# Altium integrated library NSC Simple PLD.IntLib: 508 symbols (part 4 of 10)
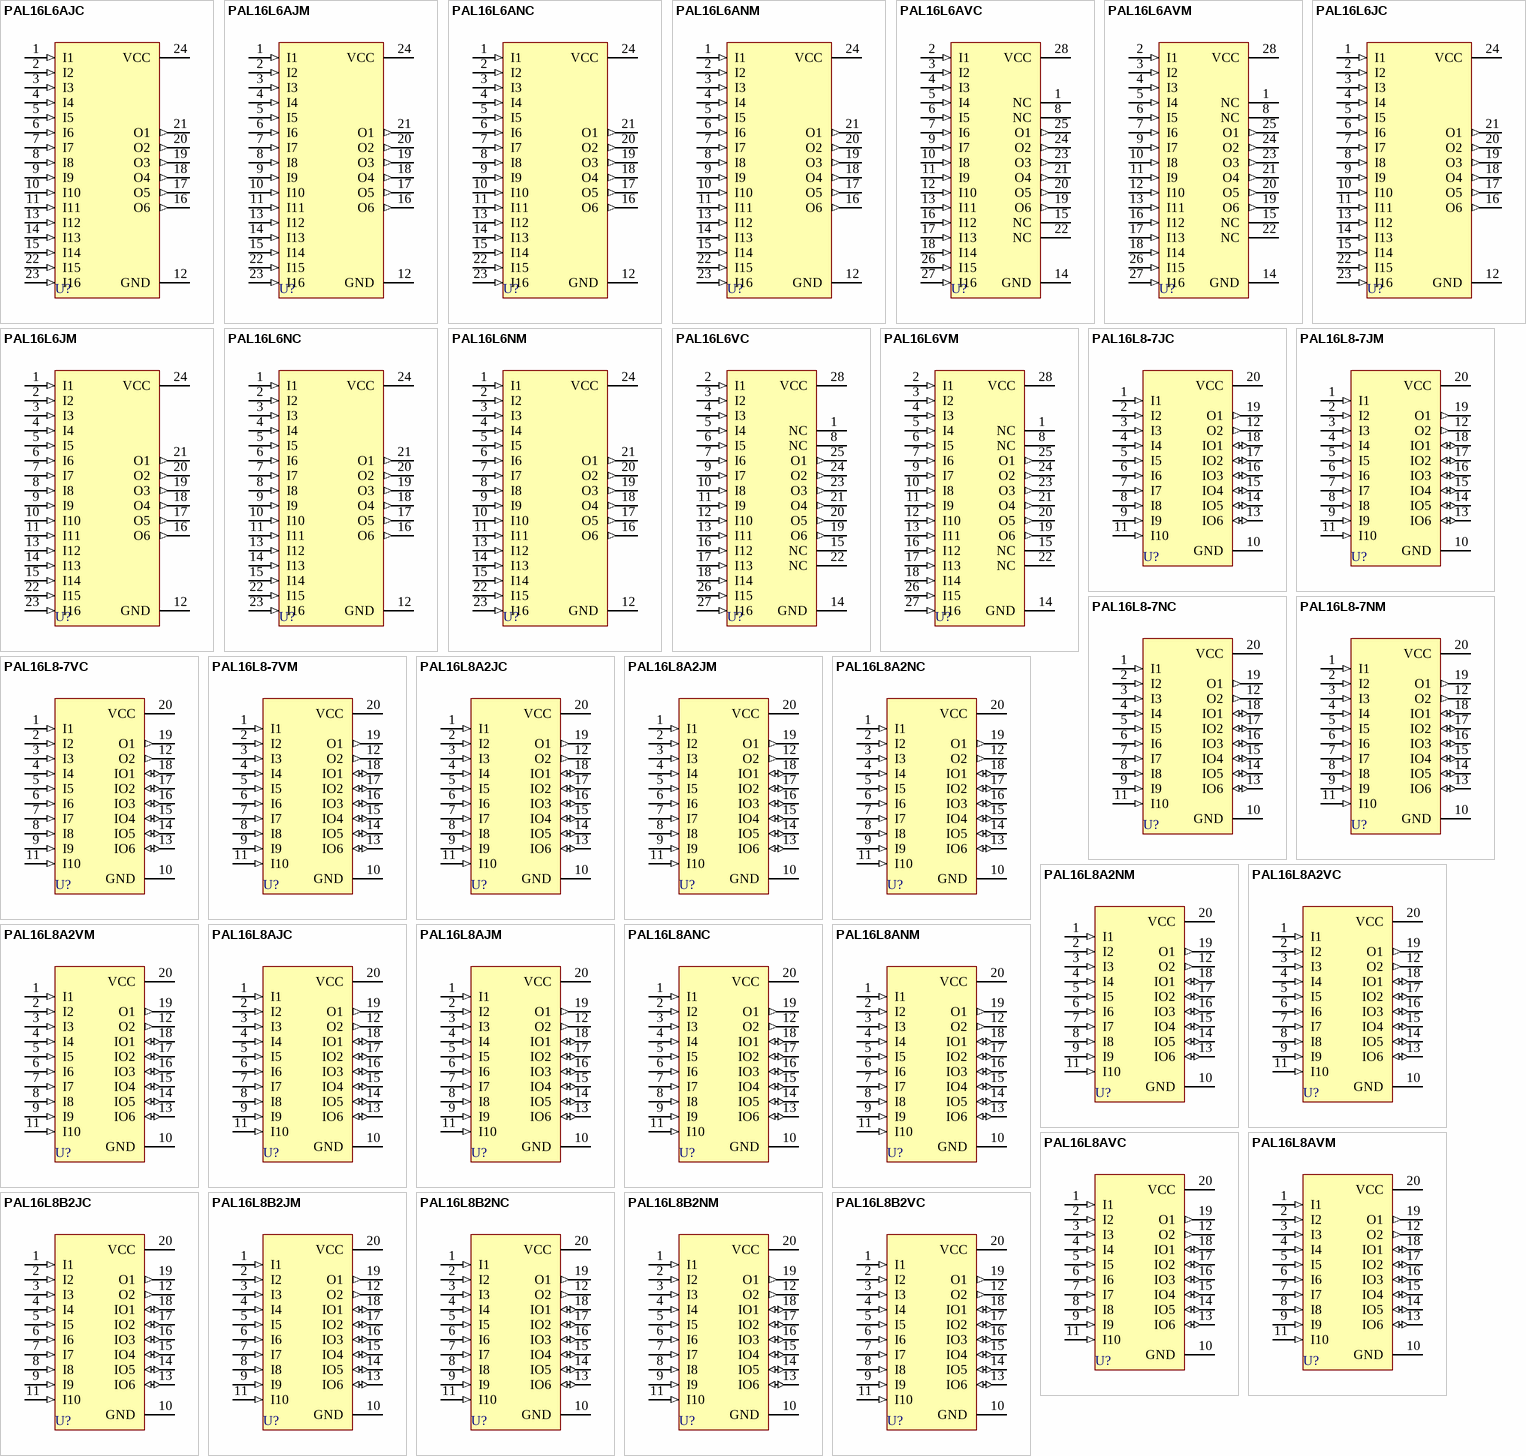
[diagram p17: symbols PAL16L6AJC to PAL16L8B2VC]

## PAL16L6AJM
designator U?
24-Pin Small PAL; Published: 15-Apr-2002; LatestRevisionDate: 04-Mar-2005; LatestRevisionNote: Stylized 3D Model Added.; DatasheetVersion: 1990; PackageVersion: 2000; PackageReference: J24F; Publisher: Altium Limited; PackageDescription: DIP; 24 Leads; Row Spacing 7.62 mm; Pitch 2.54 mm; Code_JEDEC: MS-001-AF; ComponentLink1Description: Manufacturer Link; ComponentLink1URL: http://www.national.com/
footprint J24F (DIP; 24 Leads; Row Spacing 7.62 mm; Pitch 2.54 mm)
3D model J24F (DIP; 24 Leads; Row Spacing 7.62 mm; Pitch 2.54 mm)
pins: 1 I1 (in), 2 I2 (in), 3 I3 (in), 4 I4 (in), 5 I5 (in), 6 I6 (in), 7 I7 (in), 8 I8 (in), 9 I9 (in), 10 I10 (in), 11 I11 (in), 12 GND (power), 13 I12 (in), 14 I13 (in), 15 I14 (in), 16 O6 (out), 17 O5 (out), 18 O4 (out), 19 O3 (out), 20 O2 (out), 21 O1 (out), 22 I15 (in), 23 I16 (in), 24 VCC (power)

## PAL16L6ANC
designator U?
24-Pin Small PAL; Published: 15-Apr-2002; LatestRevisionDate: 04-Mar-2005; LatestRevisionNote: Stylized 3D Model Added.; DatasheetVersion: 1990; PackageVersion: 2000; PackageReference: N24C; Publisher: Altium Limited; PackageDescription: DIP; 24 Leads; Row Spacing 7.62 mm; Pitch 2.54 mm; Code_JEDEC: MS-001-AF; ComponentLink1Description: Manufacturer Link; ComponentLink1URL: http://www.national.com/
footprint N24C (DIP; 24 Leads; Row Spacing 7.62 mm; Pitch 2.54 mm)
3D model J24F (DIP; 24 Leads; Row Spacing 7.62 mm; Pitch 2.54 mm)
pins: 1 I1 (in), 2 I2 (in), 3 I3 (in), 4 I4 (in), 5 I5 (in), 6 I6 (in), 7 I7 (in), 8 I8 (in), 9 I9 (in), 10 I10 (in), 11 I11 (in), 12 GND (power), 13 I12 (in), 14 I13 (in), 15 I14 (in), 16 O6 (out), 17 O5 (out), 18 O4 (out), 19 O3 (out), 20 O2 (out), 21 O1 (out), 22 I15 (in), 23 I16 (in), 24 VCC (power)

## PAL16L6ANM
designator U?
24-Pin Small PAL; Published: 15-Apr-2002; LatestRevisionDate: 04-Mar-2005; LatestRevisionNote: Stylized 3D Model Added.; DatasheetVersion: 1990; PackageVersion: 2000; PackageReference: N24C; Publisher: Altium Limited; PackageDescription: DIP; 24 Leads; Row Spacing 7.62 mm; Pitch 2.54 mm; Code_JEDEC: MS-001-AF; ComponentLink1Description: Manufacturer Link; ComponentLink1URL: http://www.national.com/
footprint N24C (DIP; 24 Leads; Row Spacing 7.62 mm; Pitch 2.54 mm)
3D model J24F (DIP; 24 Leads; Row Spacing 7.62 mm; Pitch 2.54 mm)
pins: 1 I1 (in), 2 I2 (in), 3 I3 (in), 4 I4 (in), 5 I5 (in), 6 I6 (in), 7 I7 (in), 8 I8 (in), 9 I9 (in), 10 I10 (in), 11 I11 (in), 12 GND (power), 13 I12 (in), 14 I13 (in), 15 I14 (in), 16 O6 (out), 17 O5 (out), 18 O4 (out), 19 O3 (out), 20 O2 (out), 21 O1 (out), 22 I15 (in), 23 I16 (in), 24 VCC (power)

## PAL16L6AVC
designator U?
28-Pin Small PAL; Published: 15-Apr-2002; LatestRevisionDate: 13-Apr-2006; LatestRevisionNote: IPC-7351 Footprint Added.; DatasheetVersion: 1990; PackageVersion: 2000; PackageReference: V28A; Publisher: Altium Limited; PackageDescription: 28-Pin Leaded Chip Carrier 1.27 mm Pitch; Code_IPC: PLCC-28; ComponentLink1Description: Manufacturer Link; ComponentLink1URL: http://www.national.com/
footprint V28A_N (Leaded Chip Carrier, 28-Leads, Body 11.5x11.5mm, Pitch 1.27mm, IPC Medium Density)
footprint V28A_L (Leaded Chip Carrier, 28-Leads, Body 11.5x11.5mm, Pitch 1.27mm, IPC High Density)
footprint V28A_M (Leaded Chip Carrier, 28-Leads, Body 11.5x11.5mm, Pitch 1.27mm, IPC Low Density)
3D model PAL16L6A-V28A (28-Pin Leaded Chip Carrier 1.27 mm Pitch)
pins: 1 NC, 2 I1 (in), 3 I2 (in), 4 I3 (in), 5 I4 (in), 6 I5 (in), 7 I6 (in), 8 NC, 9 I7 (in), 10 I8 (in), 11 I9 (in), 12 I10 (in), 13 I11 (in), 14 GND (power), 15 NC, 16 I12 (in), 17 I13 (in), 18 I14 (in), 19 O6 (out), 20 O5 (out), 21 O4 (out), 22 NC, 23 O3 (out), 24 O2 (out), 25 O1 (out), 26 I15 (in), 27 I16 (in), 28 VCC (power)

## PAL16L6AVM
designator U?
28-Pin Small PAL; Published: 15-Apr-2002; LatestRevisionDate: 13-Apr-2006; LatestRevisionNote: IPC-7351 Footprint Added.; DatasheetVersion: 1990; PackageVersion: 2000; PackageReference: V28A; Publisher: Altium Limited; PackageDescription: 28-Pin Leaded Chip Carrier 1.27 mm Pitch; Code_IPC: PLCC-28; ComponentLink1Description: Manufacturer Link; ComponentLink1URL: http://www.national.com/
footprint V28A_N (Leaded Chip Carrier, 28-Leads, Body 11.5x11.5mm, Pitch 1.27mm, IPC Medium Density)
footprint V28A_L (Leaded Chip Carrier, 28-Leads, Body 11.5x11.5mm, Pitch 1.27mm, IPC High Density)
footprint V28A_M (Leaded Chip Carrier, 28-Leads, Body 11.5x11.5mm, Pitch 1.27mm, IPC Low Density)
3D model PAL16L6A-V28A (28-Pin Leaded Chip Carrier 1.27 mm Pitch)
pins: 1 NC, 2 I1 (in), 3 I2 (in), 4 I3 (in), 5 I4 (in), 6 I5 (in), 7 I6 (in), 8 NC, 9 I7 (in), 10 I8 (in), 11 I9 (in), 12 I10 (in), 13 I11 (in), 14 GND (power), 15 NC, 16 I12 (in), 17 I13 (in), 18 I14 (in), 19 O6 (out), 20 O5 (out), 21 O4 (out), 22 NC, 23 O3 (out), 24 O2 (out), 25 O1 (out), 26 I15 (in), 27 I16 (in), 28 VCC (power)

## PAL16L6JC
designator U?
24-Pin Small PAL; Published: 15-Apr-2002; LatestRevisionDate: 04-Mar-2005; LatestRevisionNote: Stylized 3D Model Added.; DatasheetVersion: 1990; PackageVersion: 2000; PackageReference: J24F; Publisher: Altium Limited; PackageDescription: DIP; 24 Leads; Row Spacing 7.62 mm; Pitch 2.54 mm; Code_JEDEC: MS-001-AF; ComponentLink1Description: Manufacturer Link; ComponentLink1URL: http://www.national.com/
footprint J24F (DIP; 24 Leads; Row Spacing 7.62 mm; Pitch 2.54 mm)
3D model J24F (DIP; 24 Leads; Row Spacing 7.62 mm; Pitch 2.54 mm)
pins: 1 I1 (in), 2 I2 (in), 3 I3 (in), 4 I4 (in), 5 I5 (in), 6 I6 (in), 7 I7 (in), 8 I8 (in), 9 I9 (in), 10 I10 (in), 11 I11 (in), 12 GND (power), 13 I12 (in), 14 I13 (in), 15 I14 (in), 16 O6 (out), 17 O5 (out), 18 O4 (out), 19 O3 (out), 20 O2 (out), 21 O1 (out), 22 I15 (in), 23 I16 (in), 24 VCC (power)

## PAL16L6JM
designator U?
24-Pin Small PAL; Published: 15-Apr-2002; LatestRevisionDate: 04-Mar-2005; LatestRevisionNote: Stylized 3D Model Added.; DatasheetVersion: 1990; PackageVersion: 2000; PackageReference: J24F; Publisher: Altium Limited; PackageDescription: DIP; 24 Leads; Row Spacing 7.62 mm; Pitch 2.54 mm; Code_JEDEC: MS-001-AF; ComponentLink1Description: Manufacturer Link; ComponentLink1URL: http://www.national.com/
footprint J24F (DIP; 24 Leads; Row Spacing 7.62 mm; Pitch 2.54 mm)
3D model J24F (DIP; 24 Leads; Row Spacing 7.62 mm; Pitch 2.54 mm)
pins: 1 I1 (in), 2 I2 (in), 3 I3 (in), 4 I4 (in), 5 I5 (in), 6 I6 (in), 7 I7 (in), 8 I8 (in), 9 I9 (in), 10 I10 (in), 11 I11 (in), 12 GND (power), 13 I12 (in), 14 I13 (in), 15 I14 (in), 16 O6 (out), 17 O5 (out), 18 O4 (out), 19 O3 (out), 20 O2 (out), 21 O1 (out), 22 I15 (in), 23 I16 (in), 24 VCC (power)

## PAL16L6NC
designator U?
24-Pin Small PAL; Published: 15-Apr-2002; LatestRevisionDate: 04-Mar-2005; LatestRevisionNote: Stylized 3D Model Added.; DatasheetVersion: 1990; PackageVersion: 2000; PackageReference: N24C; Publisher: Altium Limited; PackageDescription: DIP; 24 Leads; Row Spacing 7.62 mm; Pitch 2.54 mm; Code_JEDEC: MS-001-AF; ComponentLink1Description: Manufacturer Link; ComponentLink1URL: http://www.national.com/
footprint N24C (DIP; 24 Leads; Row Spacing 7.62 mm; Pitch 2.54 mm)
3D model J24F (DIP; 24 Leads; Row Spacing 7.62 mm; Pitch 2.54 mm)
pins: 1 I1 (in), 2 I2 (in), 3 I3 (in), 4 I4 (in), 5 I5 (in), 6 I6 (in), 7 I7 (in), 8 I8 (in), 9 I9 (in), 10 I10 (in), 11 I11 (in), 12 GND (power), 13 I12 (in), 14 I13 (in), 15 I14 (in), 16 O6 (out), 17 O5 (out), 18 O4 (out), 19 O3 (out), 20 O2 (out), 21 O1 (out), 22 I15 (in), 23 I16 (in), 24 VCC (power)

## PAL16L6NM
designator U?
24-Pin Small PAL; Published: 15-Apr-2002; LatestRevisionDate: 04-Mar-2005; LatestRevisionNote: Stylized 3D Model Added.; DatasheetVersion: 1990; PackageVersion: 2000; PackageReference: N24C; Publisher: Altium Limited; PackageDescription: DIP; 24 Leads; Row Spacing 7.62 mm; Pitch 2.54 mm; Code_JEDEC: MS-001-AF; ComponentLink1Description: Manufacturer Link; ComponentLink1URL: http://www.national.com/
footprint N24C (DIP; 24 Leads; Row Spacing 7.62 mm; Pitch 2.54 mm)
3D model J24F (DIP; 24 Leads; Row Spacing 7.62 mm; Pitch 2.54 mm)
pins: 1 I1 (in), 2 I2 (in), 3 I3 (in), 4 I4 (in), 5 I5 (in), 6 I6 (in), 7 I7 (in), 8 I8 (in), 9 I9 (in), 10 I10 (in), 11 I11 (in), 12 GND (power), 13 I12 (in), 14 I13 (in), 15 I14 (in), 16 O6 (out), 17 O5 (out), 18 O4 (out), 19 O3 (out), 20 O2 (out), 21 O1 (out), 22 I15 (in), 23 I16 (in), 24 VCC (power)

## PAL16L6VC
designator U?
28-Pin Small PAL; Published: 15-Apr-2002; LatestRevisionDate: 13-Apr-2006; LatestRevisionNote: IPC-7351 Footprint Added.; DatasheetVersion: 1990; PackageVersion: 2000; PackageReference: V28A; Publisher: Altium Limited; PackageDescription: 28-Pin Leaded Chip Carrier 1.27 mm Pitch; Code_IPC: PLCC-28; ComponentLink1Description: Manufacturer Link; ComponentLink1URL: http://www.national.com/
footprint V28A_N (Leaded Chip Carrier, 28-Leads, Body 11.5x11.5mm, Pitch 1.27mm, IPC Medium Density)
footprint V28A_L (Leaded Chip Carrier, 28-Leads, Body 11.5x11.5mm, Pitch 1.27mm, IPC High Density)
footprint V28A_M (Leaded Chip Carrier, 28-Leads, Body 11.5x11.5mm, Pitch 1.27mm, IPC Low Density)
3D model PAL16L6-V28A (28-Pin Leaded Chip Carrier 1.27 mm Pitch)
pins: 1 NC, 2 I1 (in), 3 I2 (in), 4 I3 (in), 5 I4 (in), 6 I5 (in), 7 I6 (in), 8 NC, 9 I7 (in), 10 I8 (in), 11 I9 (in), 12 I10 (in), 13 I11 (in), 14 GND (power), 15 NC, 16 I12 (in), 17 I13 (in), 18 I14 (in), 19 O6 (out), 20 O5 (out), 21 O4 (out), 22 NC, 23 O3 (out), 24 O2 (out), 25 O1 (out), 26 I15 (in), 27 I16 (in), 28 VCC (power)

## PAL16L6VM
designator U?
28-Pin Small PAL; Published: 15-Apr-2002; LatestRevisionDate: 13-Apr-2006; LatestRevisionNote: IPC-7351 Footprint Added.; DatasheetVersion: 1990; PackageVersion: 2000; PackageReference: V28A; Publisher: Altium Limited; PackageDescription: 28-Pin Leaded Chip Carrier 1.27 mm Pitch; Code_IPC: PLCC-28; ComponentLink1Description: Manufacturer Link; ComponentLink1URL: http://www.national.com/
footprint V28A_N (Leaded Chip Carrier, 28-Leads, Body 11.5x11.5mm, Pitch 1.27mm, IPC Medium Density)
footprint V28A_L (Leaded Chip Carrier, 28-Leads, Body 11.5x11.5mm, Pitch 1.27mm, IPC High Density)
footprint V28A_M (Leaded Chip Carrier, 28-Leads, Body 11.5x11.5mm, Pitch 1.27mm, IPC Low Density)
3D model PAL16L6-V28A (28-Pin Leaded Chip Carrier 1.27 mm Pitch)
pins: 1 NC, 2 I1 (in), 3 I2 (in), 4 I3 (in), 5 I4 (in), 6 I5 (in), 7 I6 (in), 8 NC, 9 I7 (in), 10 I8 (in), 11 I9 (in), 12 I10 (in), 13 I11 (in), 14 GND (power), 15 NC, 16 I12 (in), 17 I13 (in), 18 I14 (in), 19 O6 (out), 20 O5 (out), 21 O4 (out), 22 NC, 23 O3 (out), 24 O2 (out), 25 O1 (out), 26 I15 (in), 27 I16 (in), 28 VCC (power)

## PAL16L8-7JC
designator U?
20-Pin Medium PAL; Published: 15-Apr-2002; LatestRevisionDate: 04-Mar-2005; LatestRevisionNote: Stylized 3D Model Added.; DatasheetVersion: 1990; PackageVersion: 2000; PackageReference: J20A; Publisher: Altium Limited; PackageDescription: DIP; 20 Leads; Row Spacing 7.62 mm; Pitch 2.54 mm; Code_JEDEC: MS-015-AE; ComponentLink1Description: Manufacturer Link; ComponentLink1URL: http://www.national.com/
footprint J20A (DIP; 20 Leads; Row Spacing 7.62 mm; Pitch 2.54 mm)
3D model J20A (DIP; 20 Leads; Row Spacing 7.62 mm; Pitch 2.54 mm)
pins: 1 I1 (in), 2 I2 (in), 3 I3 (in), 4 I4 (in), 5 I5 (in), 6 I6 (in), 7 I7 (in), 8 I8 (in), 9 I9 (in), 10 GND (power), 11 I10 (in), 12 O2 (out), 13 IO6 (io), 14 IO5 (io), 15 IO4 (io), 16 IO3 (io), 17 IO2 (io), 18 IO1 (io), 19 O1 (out), 20 VCC (power)

## PAL16L8-7JM
designator U?
20-Pin Medium PAL; Published: 15-Apr-2002; LatestRevisionDate: 04-Mar-2005; LatestRevisionNote: Stylized 3D Model Added.; DatasheetVersion: 1990; PackageVersion: 2000; PackageReference: J20A; Publisher: Altium Limited; PackageDescription: DIP; 20 Leads; Row Spacing 7.62 mm; Pitch 2.54 mm; Code_JEDEC: MS-015-AE; ComponentLink1Description: Manufacturer Link; ComponentLink1URL: http://www.national.com/
footprint J20A (DIP; 20 Leads; Row Spacing 7.62 mm; Pitch 2.54 mm)
3D model J20A (DIP; 20 Leads; Row Spacing 7.62 mm; Pitch 2.54 mm)
pins: 1 I1 (in), 2 I2 (in), 3 I3 (in), 4 I4 (in), 5 I5 (in), 6 I6 (in), 7 I7 (in), 8 I8 (in), 9 I9 (in), 10 GND (power), 11 I10 (in), 12 O2 (out), 13 IO6 (io), 14 IO5 (io), 15 IO4 (io), 16 IO3 (io), 17 IO2 (io), 18 IO1 (io), 19 O1 (out), 20 VCC (power)

## PAL16L8-7NC
designator U?
20-Pin Medium PAL; Published: 15-Apr-2002; LatestRevisionDate: 04-Mar-2005; LatestRevisionNote: Stylized 3D Model Added.; DatasheetVersion: 1990; PackageVersion: 2000; PackageReference: N20A; Publisher: Altium Limited; PackageDescription: DIP; 20 Leads; Row Spacing 7.62 mm; Pitch 2.54 mm; Code_JEDEC: MS-001-AD; ComponentLink1Description: Manufacturer Link; ComponentLink1URL: http://www.national.com/
footprint N20A (DIP; 20 Leads; Row Spacing 7.62 mm; Pitch 2.54 mm)
3D model N20A (DIP; 20 Leads; Row Spacing 7.62 mm; Pitch 2.54 mm)
pins: 1 I1 (in), 2 I2 (in), 3 I3 (in), 4 I4 (in), 5 I5 (in), 6 I6 (in), 7 I7 (in), 8 I8 (in), 9 I9 (in), 10 GND (power), 11 I10 (in), 12 O2 (out), 13 IO6 (io), 14 IO5 (io), 15 IO4 (io), 16 IO3 (io), 17 IO2 (io), 18 IO1 (io), 19 O1 (out), 20 VCC (power)

## PAL16L8-7NM
designator U?
20-Pin Medium PAL; Published: 15-Apr-2002; LatestRevisionDate: 04-Mar-2005; LatestRevisionNote: Stylized 3D Model Added.; DatasheetVersion: 1990; PackageVersion: 2000; PackageReference: N20A; Publisher: Altium Limited; PackageDescription: DIP; 20 Leads; Row Spacing 7.62 mm; Pitch 2.54 mm; Code_JEDEC: MS-001-AD; ComponentLink1Description: Manufacturer Link; ComponentLink1URL: http://www.national.com/
footprint N20A (DIP; 20 Leads; Row Spacing 7.62 mm; Pitch 2.54 mm)
3D model N20A (DIP; 20 Leads; Row Spacing 7.62 mm; Pitch 2.54 mm)
pins: 1 I1 (in), 2 I2 (in), 3 I3 (in), 4 I4 (in), 5 I5 (in), 6 I6 (in), 7 I7 (in), 8 I8 (in), 9 I9 (in), 10 GND (power), 11 I10 (in), 12 O2 (out), 13 IO6 (io), 14 IO5 (io), 15 IO4 (io), 16 IO3 (io), 17 IO2 (io), 18 IO1 (io), 19 O1 (out), 20 VCC (power)

## PAL16L8-7VC
designator U?
20-Pin Medium PAL; Published: 15-Apr-2002; LatestRevisionDate: 13-Apr-2006; LatestRevisionNote: IPC-7351 Footprint Added.; DatasheetVersion: 1990; PackageVersion: 1996; PackageReference: V20A; Publisher: Altium Limited; PackageDescription: 20-Pin Leaded Chip Carrier 1.27 mm Pitch; Code_IPC: PLCC-20; ComponentLink1Description: Manufacturer Link; ComponentLink1URL: http://www.national.com/
footprint V20A_N (Leaded Chip Carrier, 20-Leads, Body 9x9mm, Pitch 1.27mm, IPC Medium Density)
footprint V20A_L (Leaded Chip Carrier, 20-Leads, Body 9x9mm, Pitch 1.27mm, IPC High Density)
footprint V20A_M (Leaded Chip Carrier, 20-Leads, Body 9x9mm, Pitch 1.27mm, IPC Low Density)
3D model PAL16L8-7-V20A (20-Pin Leaded Chip Carrier 1.27 mm Pitch)
pins: 1 I1 (in), 2 I2 (in), 3 I3 (in), 4 I4 (in), 5 I5 (in), 6 I6 (in), 7 I7 (in), 8 I8 (in), 9 I9 (in), 10 GND (power), 11 I10 (in), 12 O2 (out), 13 IO6 (io), 14 IO5 (io), 15 IO4 (io), 16 IO3 (io), 17 IO2 (io), 18 IO1 (io), 19 O1 (out), 20 VCC (power)

## PAL16L8-7VM
designator U?
20-Pin Medium PAL; Published: 15-Apr-2002; LatestRevisionDate: 13-Apr-2006; LatestRevisionNote: IPC-7351 Footprint Added.; DatasheetVersion: 1990; PackageVersion: 1996; PackageReference: V20A; Publisher: Altium Limited; PackageDescription: 20-Pin Leaded Chip Carrier 1.27 mm Pitch; Code_IPC: PLCC-20; ComponentLink1Description: Manufacturer Link; ComponentLink1URL: http://www.national.com/
footprint V20A_N (Leaded Chip Carrier, 20-Leads, Body 9x9mm, Pitch 1.27mm, IPC Medium Density)
footprint V20A_L (Leaded Chip Carrier, 20-Leads, Body 9x9mm, Pitch 1.27mm, IPC High Density)
footprint V20A_M (Leaded Chip Carrier, 20-Leads, Body 9x9mm, Pitch 1.27mm, IPC Low Density)
3D model PAL16L8-7-V20A (20-Pin Leaded Chip Carrier 1.27 mm Pitch)
pins: 1 I1 (in), 2 I2 (in), 3 I3 (in), 4 I4 (in), 5 I5 (in), 6 I6 (in), 7 I7 (in), 8 I8 (in), 9 I9 (in), 10 GND (power), 11 I10 (in), 12 O2 (out), 13 IO6 (io), 14 IO5 (io), 15 IO4 (io), 16 IO3 (io), 17 IO2 (io), 18 IO1 (io), 19 O1 (out), 20 VCC (power)

## PAL16L8A2JC
designator U?
20-Pin Medium PAL; Published: 15-Apr-2002; LatestRevisionDate: 04-Mar-2005; LatestRevisionNote: Stylized 3D Model Added.; DatasheetVersion: 1990; PackageVersion: 2000; PackageReference: J20A; Publisher: Altium Limited; PackageDescription: DIP; 20 Leads; Row Spacing 7.62 mm; Pitch 2.54 mm; Code_JEDEC: MS-015-AE; ComponentLink1Description: Manufacturer Link; ComponentLink1URL: http://www.national.com/
footprint J20A (DIP; 20 Leads; Row Spacing 7.62 mm; Pitch 2.54 mm)
3D model J20A (DIP; 20 Leads; Row Spacing 7.62 mm; Pitch 2.54 mm)
pins: 1 I1 (in), 2 I2 (in), 3 I3 (in), 4 I4 (in), 5 I5 (in), 6 I6 (in), 7 I7 (in), 8 I8 (in), 9 I9 (in), 10 GND (power), 11 I10 (in), 12 O2 (out), 13 IO6 (io), 14 IO5 (io), 15 IO4 (io), 16 IO3 (io), 17 IO2 (io), 18 IO1 (io), 19 O1 (out), 20 VCC (power)

## PAL16L8A2JM
designator U?
20-Pin Medium PAL; Published: 15-Apr-2002; LatestRevisionDate: 04-Mar-2005; LatestRevisionNote: Stylized 3D Model Added.; DatasheetVersion: 1990; PackageVersion: 2000; PackageReference: J20A; Publisher: Altium Limited; PackageDescription: DIP; 20 Leads; Row Spacing 7.62 mm; Pitch 2.54 mm; Code_JEDEC: MS-015-AE; ComponentLink1Description: Manufacturer Link; ComponentLink1URL: http://www.national.com/
footprint J20A (DIP; 20 Leads; Row Spacing 7.62 mm; Pitch 2.54 mm)
3D model J20A (DIP; 20 Leads; Row Spacing 7.62 mm; Pitch 2.54 mm)
pins: 1 I1 (in), 2 I2 (in), 3 I3 (in), 4 I4 (in), 5 I5 (in), 6 I6 (in), 7 I7 (in), 8 I8 (in), 9 I9 (in), 10 GND (power), 11 I10 (in), 12 O2 (out), 13 IO6 (io), 14 IO5 (io), 15 IO4 (io), 16 IO3 (io), 17 IO2 (io), 18 IO1 (io), 19 O1 (out), 20 VCC (power)

## PAL16L8A2NC
designator U?
20-Pin Medium PAL; Published: 15-Apr-2002; LatestRevisionDate: 04-Mar-2005; LatestRevisionNote: Stylized 3D Model Added.; DatasheetVersion: 1990; PackageVersion: 2000; PackageReference: N20A; Publisher: Altium Limited; PackageDescription: DIP; 20 Leads; Row Spacing 7.62 mm; Pitch 2.54 mm; Code_JEDEC: MS-001-AD; ComponentLink1Description: Manufacturer Link; ComponentLink1URL: http://www.national.com/
footprint N20A (DIP; 20 Leads; Row Spacing 7.62 mm; Pitch 2.54 mm)
3D model N20A (DIP; 20 Leads; Row Spacing 7.62 mm; Pitch 2.54 mm)
pins: 1 I1 (in), 2 I2 (in), 3 I3 (in), 4 I4 (in), 5 I5 (in), 6 I6 (in), 7 I7 (in), 8 I8 (in), 9 I9 (in), 10 GND (power), 11 I10 (in), 12 O2 (out), 13 IO6 (io), 14 IO5 (io), 15 IO4 (io), 16 IO3 (io), 17 IO2 (io), 18 IO1 (io), 19 O1 (out), 20 VCC (power)

## PAL16L8A2NM
designator U?
20-Pin Medium PAL; Published: 15-Apr-2002; LatestRevisionDate: 04-Mar-2005; LatestRevisionNote: Stylized 3D Model Added.; DatasheetVersion: 1990; PackageVersion: 2000; PackageReference: N20A; Publisher: Altium Limited; PackageDescription: DIP; 20 Leads; Row Spacing 7.62 mm; Pitch 2.54 mm; Code_JEDEC: MS-001-AD; ComponentLink1Description: Manufacturer Link; ComponentLink1URL: http://www.national.com/
footprint N20A (DIP; 20 Leads; Row Spacing 7.62 mm; Pitch 2.54 mm)
3D model N20A (DIP; 20 Leads; Row Spacing 7.62 mm; Pitch 2.54 mm)
pins: 1 I1 (in), 2 I2 (in), 3 I3 (in), 4 I4 (in), 5 I5 (in), 6 I6 (in), 7 I7 (in), 8 I8 (in), 9 I9 (in), 10 GND (power), 11 I10 (in), 12 O2 (out), 13 IO6 (io), 14 IO5 (io), 15 IO4 (io), 16 IO3 (io), 17 IO2 (io), 18 IO1 (io), 19 O1 (out), 20 VCC (power)

## PAL16L8A2VC
designator U?
20-Pin Medium PAL; Published: 15-Apr-2002; LatestRevisionDate: 13-Apr-2006; LatestRevisionNote: IPC-7351 Footprint Added.; DatasheetVersion: 1990; PackageVersion: 1996; PackageReference: V20A; Publisher: Altium Limited; PackageDescription: 20-Pin Leaded Chip Carrier 1.27 mm Pitch; Code_IPC: PLCC-20; ComponentLink1Description: Manufacturer Link; ComponentLink1URL: http://www.national.com/
footprint V20A_N (Leaded Chip Carrier, 20-Leads, Body 9x9mm, Pitch 1.27mm, IPC Medium Density)
footprint V20A_L (Leaded Chip Carrier, 20-Leads, Body 9x9mm, Pitch 1.27mm, IPC High Density)
footprint V20A_M (Leaded Chip Carrier, 20-Leads, Body 9x9mm, Pitch 1.27mm, IPC Low Density)
3D model PAL16L8A2-V20A (20-Pin Leaded Chip Carrier 1.27 mm Pitch)
pins: 1 I1 (in), 2 I2 (in), 3 I3 (in), 4 I4 (in), 5 I5 (in), 6 I6 (in), 7 I7 (in), 8 I8 (in), 9 I9 (in), 10 GND (power), 11 I10 (in), 12 O2 (out), 13 IO6 (io), 14 IO5 (io), 15 IO4 (io), 16 IO3 (io), 17 IO2 (io), 18 IO1 (io), 19 O1 (out), 20 VCC (power)

## PAL16L8A2VM
designator U?
20-Pin Medium PAL; Published: 15-Apr-2002; LatestRevisionDate: 13-Apr-2006; LatestRevisionNote: IPC-7351 Footprint Added.; DatasheetVersion: 1990; PackageVersion: 1996; PackageReference: V20A; Publisher: Altium Limited; PackageDescription: 20-Pin Leaded Chip Carrier 1.27 mm Pitch; Code_IPC: PLCC-20; ComponentLink1Description: Manufacturer Link; ComponentLink1URL: http://www.national.com/
footprint V20A_N (Leaded Chip Carrier, 20-Leads, Body 9x9mm, Pitch 1.27mm, IPC Medium Density)
footprint V20A_L (Leaded Chip Carrier, 20-Leads, Body 9x9mm, Pitch 1.27mm, IPC High Density)
footprint V20A_M (Leaded Chip Carrier, 20-Leads, Body 9x9mm, Pitch 1.27mm, IPC Low Density)
3D model PAL16L8A2-V20A (20-Pin Leaded Chip Carrier 1.27 mm Pitch)
pins: 1 I1 (in), 2 I2 (in), 3 I3 (in), 4 I4 (in), 5 I5 (in), 6 I6 (in), 7 I7 (in), 8 I8 (in), 9 I9 (in), 10 GND (power), 11 I10 (in), 12 O2 (out), 13 IO6 (io), 14 IO5 (io), 15 IO4 (io), 16 IO3 (io), 17 IO2 (io), 18 IO1 (io), 19 O1 (out), 20 VCC (power)

## PAL16L8AJC
designator U?
20-Pin Medium PAL; Published: 15-Apr-2002; LatestRevisionDate: 04-Mar-2005; LatestRevisionNote: Stylized 3D Model Added.; DatasheetVersion: 1990; PackageVersion: 2000; PackageReference: J20A; Publisher: Altium Limited; PackageDescription: DIP; 20 Leads; Row Spacing 7.62 mm; Pitch 2.54 mm; Code_JEDEC: MS-015-AE; ComponentLink1Description: Manufacturer Link; ComponentLink1URL: http://www.national.com/
footprint J20A (DIP; 20 Leads; Row Spacing 7.62 mm; Pitch 2.54 mm)
3D model J20A (DIP; 20 Leads; Row Spacing 7.62 mm; Pitch 2.54 mm)
pins: 1 I1 (in), 2 I2 (in), 3 I3 (in), 4 I4 (in), 5 I5 (in), 6 I6 (in), 7 I7 (in), 8 I8 (in), 9 I9 (in), 10 GND (power), 11 I10 (in), 12 O2 (out), 13 IO6 (io), 14 IO5 (io), 15 IO4 (io), 16 IO3 (io), 17 IO2 (io), 18 IO1 (io), 19 O1 (out), 20 VCC (power)

## PAL16L8AJM
designator U?
20-Pin Medium PAL; Published: 15-Apr-2002; LatestRevisionDate: 04-Mar-2005; LatestRevisionNote: Stylized 3D Model Added.; DatasheetVersion: 1990; PackageVersion: 2000; PackageReference: J20A; Publisher: Altium Limited; PackageDescription: DIP; 20 Leads; Row Spacing 7.62 mm; Pitch 2.54 mm; Code_JEDEC: MS-015-AE; ComponentLink1Description: Manufacturer Link; ComponentLink1URL: http://www.national.com/
footprint J20A (DIP; 20 Leads; Row Spacing 7.62 mm; Pitch 2.54 mm)
3D model J20A (DIP; 20 Leads; Row Spacing 7.62 mm; Pitch 2.54 mm)
pins: 1 I1 (in), 2 I2 (in), 3 I3 (in), 4 I4 (in), 5 I5 (in), 6 I6 (in), 7 I7 (in), 8 I8 (in), 9 I9 (in), 10 GND (power), 11 I10 (in), 12 O2 (out), 13 IO6 (io), 14 IO5 (io), 15 IO4 (io), 16 IO3 (io), 17 IO2 (io), 18 IO1 (io), 19 O1 (out), 20 VCC (power)

## PAL16L8ANC
designator U?
20-Pin Medium PAL; Published: 15-Apr-2002; LatestRevisionDate: 04-Mar-2005; LatestRevisionNote: Stylized 3D Model Added.; DatasheetVersion: 1990; PackageVersion: 2000; PackageReference: N20A; Publisher: Altium Limited; PackageDescription: DIP; 20 Leads; Row Spacing 7.62 mm; Pitch 2.54 mm; Code_JEDEC: MS-001-AD; ComponentLink1Description: Manufacturer Link; ComponentLink1URL: http://www.national.com/
footprint N20A (DIP; 20 Leads; Row Spacing 7.62 mm; Pitch 2.54 mm)
3D model N20A (DIP; 20 Leads; Row Spacing 7.62 mm; Pitch 2.54 mm)
pins: 1 I1 (in), 2 I2 (in), 3 I3 (in), 4 I4 (in), 5 I5 (in), 6 I6 (in), 7 I7 (in), 8 I8 (in), 9 I9 (in), 10 GND (power), 11 I10 (in), 12 O2 (out), 13 IO6 (io), 14 IO5 (io), 15 IO4 (io), 16 IO3 (io), 17 IO2 (io), 18 IO1 (io), 19 O1 (out), 20 VCC (power)

## PAL16L8ANM
designator U?
20-Pin Medium PAL; Published: 15-Apr-2002; LatestRevisionDate: 04-Mar-2005; LatestRevisionNote: Stylized 3D Model Added.; DatasheetVersion: 1990; PackageVersion: 2000; PackageReference: N20A; Publisher: Altium Limited; PackageDescription: DIP; 20 Leads; Row Spacing 7.62 mm; Pitch 2.54 mm; Code_JEDEC: MS-001-AD; ComponentLink1Description: Manufacturer Link; ComponentLink1URL: http://www.national.com/
footprint N20A (DIP; 20 Leads; Row Spacing 7.62 mm; Pitch 2.54 mm)
3D model N20A (DIP; 20 Leads; Row Spacing 7.62 mm; Pitch 2.54 mm)
pins: 1 I1 (in), 2 I2 (in), 3 I3 (in), 4 I4 (in), 5 I5 (in), 6 I6 (in), 7 I7 (in), 8 I8 (in), 9 I9 (in), 10 GND (power), 11 I10 (in), 12 O2 (out), 13 IO6 (io), 14 IO5 (io), 15 IO4 (io), 16 IO3 (io), 17 IO2 (io), 18 IO1 (io), 19 O1 (out), 20 VCC (power)

## PAL16L8AVC
designator U?
20-Pin Medium PAL; Published: 15-Apr-2002; LatestRevisionDate: 13-Apr-2006; LatestRevisionNote: IPC-7351 Footprint Added.; DatasheetVersion: 1990; PackageVersion: 1996; PackageReference: V20A; Publisher: Altium Limited; PackageDescription: 20-Pin Leaded Chip Carrier 1.27 mm Pitch; Code_IPC: PLCC-20; ComponentLink1Description: Manufacturer Link; ComponentLink1URL: http://www.national.com/
footprint V20A_N (Leaded Chip Carrier, 20-Leads, Body 9x9mm, Pitch 1.27mm, IPC Medium Density)
footprint V20A_L (Leaded Chip Carrier, 20-Leads, Body 9x9mm, Pitch 1.27mm, IPC High Density)
footprint V20A_M (Leaded Chip Carrier, 20-Leads, Body 9x9mm, Pitch 1.27mm, IPC Low Density)
3D model PAL16L8A-V20A (20-Pin Leaded Chip Carrier 1.27 mm Pitch)
pins: 1 I1 (in), 2 I2 (in), 3 I3 (in), 4 I4 (in), 5 I5 (in), 6 I6 (in), 7 I7 (in), 8 I8 (in), 9 I9 (in), 10 GND (power), 11 I10 (in), 12 O2 (out), 13 IO6 (io), 14 IO5 (io), 15 IO4 (io), 16 IO3 (io), 17 IO2 (io), 18 IO1 (io), 19 O1 (out), 20 VCC (power)

## PAL16L8AVM
designator U?
20-Pin Medium PAL; Published: 15-Apr-2002; LatestRevisionDate: 13-Apr-2006; LatestRevisionNote: IPC-7351 Footprint Added.; DatasheetVersion: 1990; PackageVersion: 1996; PackageReference: V20A; Publisher: Altium Limited; PackageDescription: 20-Pin Leaded Chip Carrier 1.27 mm Pitch; Code_IPC: PLCC-20; ComponentLink1Description: Manufacturer Link; ComponentLink1URL: http://www.national.com/
footprint V20A_N (Leaded Chip Carrier, 20-Leads, Body 9x9mm, Pitch 1.27mm, IPC Medium Density)
footprint V20A_L (Leaded Chip Carrier, 20-Leads, Body 9x9mm, Pitch 1.27mm, IPC High Density)
footprint V20A_M (Leaded Chip Carrier, 20-Leads, Body 9x9mm, Pitch 1.27mm, IPC Low Density)
3D model PAL16L8A-V20A (20-Pin Leaded Chip Carrier 1.27 mm Pitch)
pins: 1 I1 (in), 2 I2 (in), 3 I3 (in), 4 I4 (in), 5 I5 (in), 6 I6 (in), 7 I7 (in), 8 I8 (in), 9 I9 (in), 10 GND (power), 11 I10 (in), 12 O2 (out), 13 IO6 (io), 14 IO5 (io), 15 IO4 (io), 16 IO3 (io), 17 IO2 (io), 18 IO1 (io), 19 O1 (out), 20 VCC (power)

## PAL16L8B2JC
designator U?
20-Pin Medium PAL; Published: 15-Apr-2002; LatestRevisionDate: 04-Mar-2005; LatestRevisionNote: Stylized 3D Model Added.; DatasheetVersion: 1990; PackageVersion: 2000; PackageReference: J20A; Publisher: Altium Limited; PackageDescription: DIP; 20 Leads; Row Spacing 7.62 mm; Pitch 2.54 mm; Code_JEDEC: MS-015-AE; ComponentLink1Description: Manufacturer Link; ComponentLink1URL: http://www.national.com/
footprint J20A (DIP; 20 Leads; Row Spacing 7.62 mm; Pitch 2.54 mm)
3D model J20A (DIP; 20 Leads; Row Spacing 7.62 mm; Pitch 2.54 mm)
pins: 1 I1 (in), 2 I2 (in), 3 I3 (in), 4 I4 (in), 5 I5 (in), 6 I6 (in), 7 I7 (in), 8 I8 (in), 9 I9 (in), 10 GND (power), 11 I10 (in), 12 O2 (out), 13 IO6 (io), 14 IO5 (io), 15 IO4 (io), 16 IO3 (io), 17 IO2 (io), 18 IO1 (io), 19 O1 (out), 20 VCC (power)

## PAL16L8B2JM
designator U?
20-Pin Medium PAL; Published: 15-Apr-2002; LatestRevisionDate: 04-Mar-2005; LatestRevisionNote: Stylized 3D Model Added.; DatasheetVersion: 1990; PackageVersion: 2000; PackageReference: J20A; Publisher: Altium Limited; PackageDescription: DIP; 20 Leads; Row Spacing 7.62 mm; Pitch 2.54 mm; Code_JEDEC: MS-015-AE; ComponentLink1Description: Manufacturer Link; ComponentLink1URL: http://www.national.com/
footprint J20A (DIP; 20 Leads; Row Spacing 7.62 mm; Pitch 2.54 mm)
3D model J20A (DIP; 20 Leads; Row Spacing 7.62 mm; Pitch 2.54 mm)
pins: 1 I1 (in), 2 I2 (in), 3 I3 (in), 4 I4 (in), 5 I5 (in), 6 I6 (in), 7 I7 (in), 8 I8 (in), 9 I9 (in), 10 GND (power), 11 I10 (in), 12 O2 (out), 13 IO6 (io), 14 IO5 (io), 15 IO4 (io), 16 IO3 (io), 17 IO2 (io), 18 IO1 (io), 19 O1 (out), 20 VCC (power)

## PAL16L8B2NC
designator U?
20-Pin Medium PAL; Published: 15-Apr-2002; LatestRevisionDate: 04-Mar-2005; LatestRevisionNote: Stylized 3D Model Added.; DatasheetVersion: 1990; PackageVersion: 2000; PackageReference: N20A; Publisher: Altium Limited; PackageDescription: DIP; 20 Leads; Row Spacing 7.62 mm; Pitch 2.54 mm; Code_JEDEC: MS-001-AD; ComponentLink1Description: Manufacturer Link; ComponentLink1URL: http://www.national.com/
footprint N20A (DIP; 20 Leads; Row Spacing 7.62 mm; Pitch 2.54 mm)
3D model N20A (DIP; 20 Leads; Row Spacing 7.62 mm; Pitch 2.54 mm)
pins: 1 I1 (in), 2 I2 (in), 3 I3 (in), 4 I4 (in), 5 I5 (in), 6 I6 (in), 7 I7 (in), 8 I8 (in), 9 I9 (in), 10 GND (power), 11 I10 (in), 12 O2 (out), 13 IO6 (io), 14 IO5 (io), 15 IO4 (io), 16 IO3 (io), 17 IO2 (io), 18 IO1 (io), 19 O1 (out), 20 VCC (power)

## PAL16L8B2NM
designator U?
20-Pin Medium PAL; Published: 15-Apr-2002; LatestRevisionDate: 04-Mar-2005; LatestRevisionNote: Stylized 3D Model Added.; DatasheetVersion: 1990; PackageVersion: 2000; PackageReference: N20A; Publisher: Altium Limited; PackageDescription: DIP; 20 Leads; Row Spacing 7.62 mm; Pitch 2.54 mm; Code_JEDEC: MS-001-AD; ComponentLink1Description: Manufacturer Link; ComponentLink1URL: http://www.national.com/
footprint N20A (DIP; 20 Leads; Row Spacing 7.62 mm; Pitch 2.54 mm)
3D model N20A (DIP; 20 Leads; Row Spacing 7.62 mm; Pitch 2.54 mm)
pins: 1 I1 (in), 2 I2 (in), 3 I3 (in), 4 I4 (in), 5 I5 (in), 6 I6 (in), 7 I7 (in), 8 I8 (in), 9 I9 (in), 10 GND (power), 11 I10 (in), 12 O2 (out), 13 IO6 (io), 14 IO5 (io), 15 IO4 (io), 16 IO3 (io), 17 IO2 (io), 18 IO1 (io), 19 O1 (out), 20 VCC (power)

## PAL16L8B2VC
designator U?
20-Pin Medium PAL; Published: 15-Apr-2002; LatestRevisionDate: 13-Apr-2006; LatestRevisionNote: IPC-7351 Footprint Added.; DatasheetVersion: 1990; PackageVersion: 1996; PackageReference: V20A; Publisher: Altium Limited; PackageDescription: 20-Pin Leaded Chip Carrier 1.27 mm Pitch; Code_IPC: PLCC-20; ComponentLink1Description: Manufacturer Link; ComponentLink1URL: http://www.national.com/
footprint V20A_N (Leaded Chip Carrier, 20-Leads, Body 9x9mm, Pitch 1.27mm, IPC Medium Density)
footprint V20A_L (Leaded Chip Carrier, 20-Leads, Body 9x9mm, Pitch 1.27mm, IPC High Density)
footprint V20A_M (Leaded Chip Carrier, 20-Leads, Body 9x9mm, Pitch 1.27mm, IPC Low Density)
3D model PAL16L8B2-V20A (20-Pin Leaded Chip Carrier 1.27 mm Pitch)
pins: 1 I1 (in), 2 I2 (in), 3 I3 (in), 4 I4 (in), 5 I5 (in), 6 I6 (in), 7 I7 (in), 8 I8 (in), 9 I9 (in), 10 GND (power), 11 I10 (in), 12 O2 (out), 13 IO6 (io), 14 IO5 (io), 15 IO4 (io), 16 IO3 (io), 17 IO2 (io), 18 IO1 (io), 19 O1 (out), 20 VCC (power)

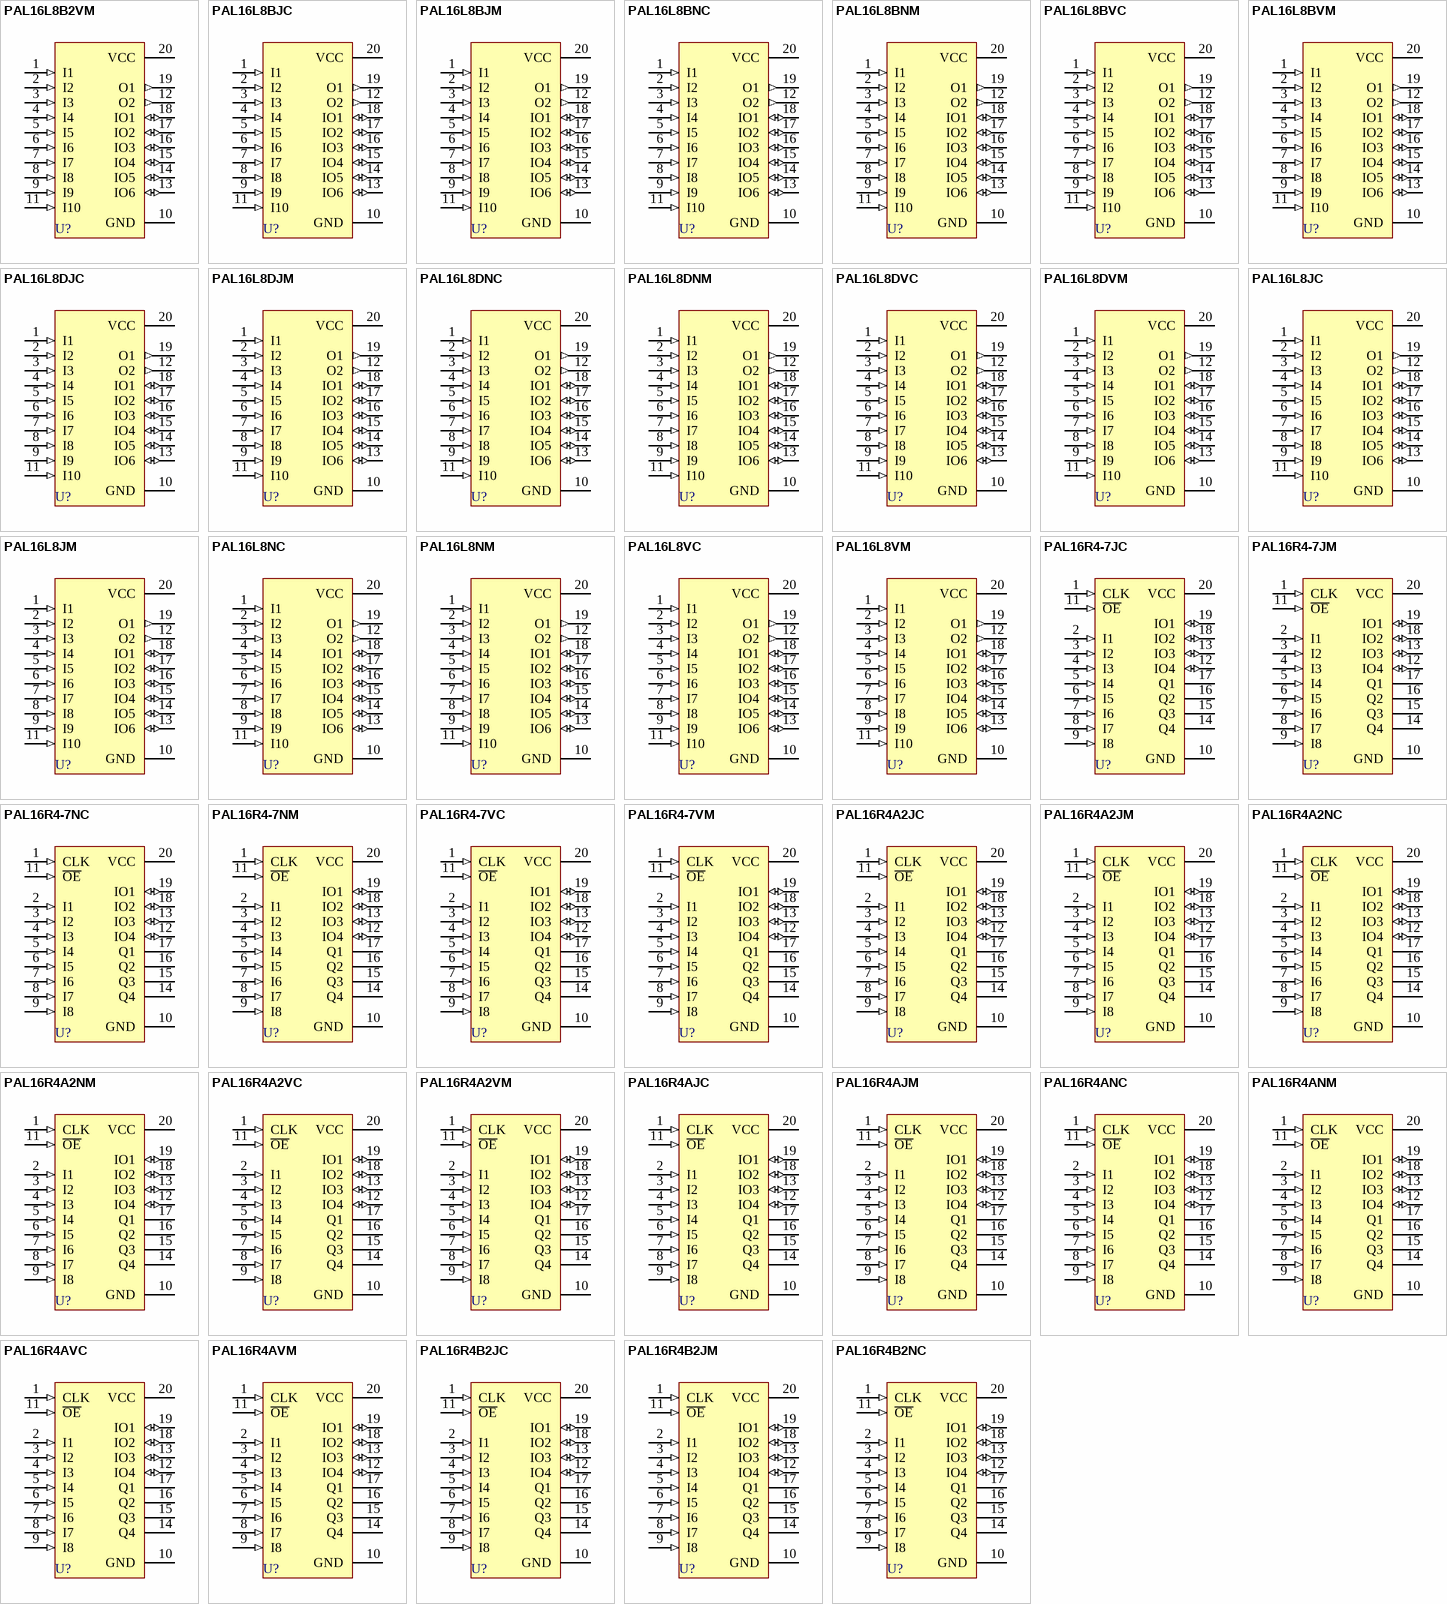
[diagram p6: symbols PAL16L8B2VM to PAL16R4B2NC]

## PAL16L8B2VM
designator U?
20-Pin Medium PAL; Published: 15-Apr-2002; LatestRevisionDate: 13-Apr-2006; LatestRevisionNote: IPC-7351 Footprint Added.; DatasheetVersion: 1990; PackageVersion: 1996; PackageReference: V20A; Publisher: Altium Limited; PackageDescription: 20-Pin Leaded Chip Carrier 1.27 mm Pitch; Code_IPC: PLCC-20; ComponentLink1Description: Manufacturer Link; ComponentLink1URL: http://www.national.com/
footprint V20A_N (Leaded Chip Carrier, 20-Leads, Body 9x9mm, Pitch 1.27mm, IPC Medium Density)
footprint V20A_L (Leaded Chip Carrier, 20-Leads, Body 9x9mm, Pitch 1.27mm, IPC High Density)
footprint V20A_M (Leaded Chip Carrier, 20-Leads, Body 9x9mm, Pitch 1.27mm, IPC Low Density)
3D model PAL16L8B2-V20A (20-Pin Leaded Chip Carrier 1.27 mm Pitch)
pins: 1 I1 (in), 2 I2 (in), 3 I3 (in), 4 I4 (in), 5 I5 (in), 6 I6 (in), 7 I7 (in), 8 I8 (in), 9 I9 (in), 10 GND (power), 11 I10 (in), 12 O2 (out), 13 IO6 (io), 14 IO5 (io), 15 IO4 (io), 16 IO3 (io), 17 IO2 (io), 18 IO1 (io), 19 O1 (out), 20 VCC (power)

## PAL16L8BJC
designator U?
20-Pin Medium PAL; Published: 15-Apr-2002; LatestRevisionDate: 04-Mar-2005; LatestRevisionNote: Stylized 3D Model Added.; DatasheetVersion: 1990; PackageVersion: 2000; PackageReference: J20A; Publisher: Altium Limited; PackageDescription: DIP; 20 Leads; Row Spacing 7.62 mm; Pitch 2.54 mm; Code_JEDEC: MS-015-AE; ComponentLink1Description: Manufacturer Link; ComponentLink1URL: http://www.national.com/
footprint J20A (DIP; 20 Leads; Row Spacing 7.62 mm; Pitch 2.54 mm)
3D model J20A (DIP; 20 Leads; Row Spacing 7.62 mm; Pitch 2.54 mm)
pins: 1 I1 (in), 2 I2 (in), 3 I3 (in), 4 I4 (in), 5 I5 (in), 6 I6 (in), 7 I7 (in), 8 I8 (in), 9 I9 (in), 10 GND (power), 11 I10 (in), 12 O2 (out), 13 IO6 (io), 14 IO5 (io), 15 IO4 (io), 16 IO3 (io), 17 IO2 (io), 18 IO1 (io), 19 O1 (out), 20 VCC (power)

## PAL16L8BJM
designator U?
20-Pin Medium PAL; Published: 15-Apr-2002; LatestRevisionDate: 04-Mar-2005; LatestRevisionNote: Stylized 3D Model Added.; DatasheetVersion: 1990; PackageVersion: 2000; PackageReference: J20A; Publisher: Altium Limited; PackageDescription: DIP; 20 Leads; Row Spacing 7.62 mm; Pitch 2.54 mm; Code_JEDEC: MS-015-AE; ComponentLink1Description: Manufacturer Link; ComponentLink1URL: http://www.national.com/
footprint J20A (DIP; 20 Leads; Row Spacing 7.62 mm; Pitch 2.54 mm)
3D model J20A (DIP; 20 Leads; Row Spacing 7.62 mm; Pitch 2.54 mm)
pins: 1 I1 (in), 2 I2 (in), 3 I3 (in), 4 I4 (in), 5 I5 (in), 6 I6 (in), 7 I7 (in), 8 I8 (in), 9 I9 (in), 10 GND (power), 11 I10 (in), 12 O2 (out), 13 IO6 (io), 14 IO5 (io), 15 IO4 (io), 16 IO3 (io), 17 IO2 (io), 18 IO1 (io), 19 O1 (out), 20 VCC (power)

## PAL16L8BNC
designator U?
20-Pin Medium PAL; Published: 15-Apr-2002; LatestRevisionDate: 04-Mar-2005; LatestRevisionNote: Stylized 3D Model Added.; DatasheetVersion: 1990; PackageVersion: 2000; PackageReference: N20A; Publisher: Altium Limited; PackageDescription: DIP; 20 Leads; Row Spacing 7.62 mm; Pitch 2.54 mm; Code_JEDEC: MS-001-AD; ComponentLink1Description: Manufacturer Link; ComponentLink1URL: http://www.national.com/
footprint N20A (DIP; 20 Leads; Row Spacing 7.62 mm; Pitch 2.54 mm)
3D model N20A (DIP; 20 Leads; Row Spacing 7.62 mm; Pitch 2.54 mm)
pins: 1 I1 (in), 2 I2 (in), 3 I3 (in), 4 I4 (in), 5 I5 (in), 6 I6 (in), 7 I7 (in), 8 I8 (in), 9 I9 (in), 10 GND (power), 11 I10 (in), 12 O2 (out), 13 IO6 (io), 14 IO5 (io), 15 IO4 (io), 16 IO3 (io), 17 IO2 (io), 18 IO1 (io), 19 O1 (out), 20 VCC (power)

## PAL16L8BNM
designator U?
20-Pin Medium PAL; Published: 15-Apr-2002; LatestRevisionDate: 04-Mar-2005; LatestRevisionNote: Stylized 3D Model Added.; DatasheetVersion: 1990; PackageVersion: 2000; PackageReference: N20A; Publisher: Altium Limited; PackageDescription: DIP; 20 Leads; Row Spacing 7.62 mm; Pitch 2.54 mm; Code_JEDEC: MS-001-AD; ComponentLink1Description: Manufacturer Link; ComponentLink1URL: http://www.national.com/
footprint N20A (DIP; 20 Leads; Row Spacing 7.62 mm; Pitch 2.54 mm)
3D model N20A (DIP; 20 Leads; Row Spacing 7.62 mm; Pitch 2.54 mm)
pins: 1 I1 (in), 2 I2 (in), 3 I3 (in), 4 I4 (in), 5 I5 (in), 6 I6 (in), 7 I7 (in), 8 I8 (in), 9 I9 (in), 10 GND (power), 11 I10 (in), 12 O2 (out), 13 IO6 (io), 14 IO5 (io), 15 IO4 (io), 16 IO3 (io), 17 IO2 (io), 18 IO1 (io), 19 O1 (out), 20 VCC (power)

## PAL16L8BVC
designator U?
20-Pin Medium PAL; Published: 15-Apr-2002; LatestRevisionDate: 13-Apr-2006; LatestRevisionNote: IPC-7351 Footprint Added.; DatasheetVersion: 1990; PackageVersion: 1996; PackageReference: V20A; Publisher: Altium Limited; PackageDescription: 20-Pin Leaded Chip Carrier 1.27 mm Pitch; Code_IPC: PLCC-20; ComponentLink1Description: Manufacturer Link; ComponentLink1URL: http://www.national.com/
footprint V20A_N (Leaded Chip Carrier, 20-Leads, Body 9x9mm, Pitch 1.27mm, IPC Medium Density)
footprint V20A_L (Leaded Chip Carrier, 20-Leads, Body 9x9mm, Pitch 1.27mm, IPC High Density)
footprint V20A_M (Leaded Chip Carrier, 20-Leads, Body 9x9mm, Pitch 1.27mm, IPC Low Density)
3D model PAL16L8B-V20A (20-Pin Leaded Chip Carrier 1.27 mm Pitch)
pins: 1 I1 (in), 2 I2 (in), 3 I3 (in), 4 I4 (in), 5 I5 (in), 6 I6 (in), 7 I7 (in), 8 I8 (in), 9 I9 (in), 10 GND (power), 11 I10 (in), 12 O2 (out), 13 IO6 (io), 14 IO5 (io), 15 IO4 (io), 16 IO3 (io), 17 IO2 (io), 18 IO1 (io), 19 O1 (out), 20 VCC (power)

## PAL16L8BVM
designator U?
20-Pin Medium PAL; Published: 15-Apr-2002; LatestRevisionDate: 13-Apr-2006; LatestRevisionNote: IPC-7351 Footprint Added.; DatasheetVersion: 1990; PackageVersion: 1996; PackageReference: V20A; Publisher: Altium Limited; PackageDescription: 20-Pin Leaded Chip Carrier 1.27 mm Pitch; Code_IPC: PLCC-20; ComponentLink1Description: Manufacturer Link; ComponentLink1URL: http://www.national.com/
footprint V20A_N (Leaded Chip Carrier, 20-Leads, Body 9x9mm, Pitch 1.27mm, IPC Medium Density)
footprint V20A_L (Leaded Chip Carrier, 20-Leads, Body 9x9mm, Pitch 1.27mm, IPC High Density)
footprint V20A_M (Leaded Chip Carrier, 20-Leads, Body 9x9mm, Pitch 1.27mm, IPC Low Density)
3D model PAL16L8B-V20A (20-Pin Leaded Chip Carrier 1.27 mm Pitch)
pins: 1 I1 (in), 2 I2 (in), 3 I3 (in), 4 I4 (in), 5 I5 (in), 6 I6 (in), 7 I7 (in), 8 I8 (in), 9 I9 (in), 10 GND (power), 11 I10 (in), 12 O2 (out), 13 IO6 (io), 14 IO5 (io), 15 IO4 (io), 16 IO3 (io), 17 IO2 (io), 18 IO1 (io), 19 O1 (out), 20 VCC (power)

## PAL16L8DJC
designator U?
20-Pin Medium PAL; Published: 15-Apr-2002; LatestRevisionDate: 04-Mar-2005; LatestRevisionNote: Stylized 3D Model Added.; DatasheetVersion: 1990; PackageVersion: 2000; PackageReference: J20A; Publisher: Altium Limited; PackageDescription: DIP; 20 Leads; Row Spacing 7.62 mm; Pitch 2.54 mm; Code_JEDEC: MS-015-AE; ComponentLink1Description: Manufacturer Link; ComponentLink1URL: http://www.national.com/
footprint J20A (DIP; 20 Leads; Row Spacing 7.62 mm; Pitch 2.54 mm)
3D model J20A (DIP; 20 Leads; Row Spacing 7.62 mm; Pitch 2.54 mm)
pins: 1 I1 (in), 2 I2 (in), 3 I3 (in), 4 I4 (in), 5 I5 (in), 6 I6 (in), 7 I7 (in), 8 I8 (in), 9 I9 (in), 10 GND (power), 11 I10 (in), 12 O2 (out), 13 IO6 (io), 14 IO5 (io), 15 IO4 (io), 16 IO3 (io), 17 IO2 (io), 18 IO1 (io), 19 O1 (out), 20 VCC (power)

## PAL16L8DJM
designator U?
20-Pin Medium PAL; Published: 15-Apr-2002; LatestRevisionDate: 04-Mar-2005; LatestRevisionNote: Stylized 3D Model Added.; DatasheetVersion: 1990; PackageVersion: 2000; PackageReference: J20A; Publisher: Altium Limited; PackageDescription: DIP; 20 Leads; Row Spacing 7.62 mm; Pitch 2.54 mm; Code_JEDEC: MS-015-AE; ComponentLink1Description: Manufacturer Link; ComponentLink1URL: http://www.national.com/
footprint J20A (DIP; 20 Leads; Row Spacing 7.62 mm; Pitch 2.54 mm)
3D model J20A (DIP; 20 Leads; Row Spacing 7.62 mm; Pitch 2.54 mm)
pins: 1 I1 (in), 2 I2 (in), 3 I3 (in), 4 I4 (in), 5 I5 (in), 6 I6 (in), 7 I7 (in), 8 I8 (in), 9 I9 (in), 10 GND (power), 11 I10 (in), 12 O2 (out), 13 IO6 (io), 14 IO5 (io), 15 IO4 (io), 16 IO3 (io), 17 IO2 (io), 18 IO1 (io), 19 O1 (out), 20 VCC (power)

## PAL16L8DNC
designator U?
20-Pin Medium PAL; Published: 15-Apr-2002; LatestRevisionDate: 04-Mar-2005; LatestRevisionNote: Stylized 3D Model Added.; DatasheetVersion: 1990; PackageVersion: 2000; PackageReference: N20A; Publisher: Altium Limited; PackageDescription: DIP; 20 Leads; Row Spacing 7.62 mm; Pitch 2.54 mm; Code_JEDEC: MS-001-AD; ComponentLink1Description: Manufacturer Link; ComponentLink1URL: http://www.national.com/
footprint N20A (DIP; 20 Leads; Row Spacing 7.62 mm; Pitch 2.54 mm)
3D model N20A (DIP; 20 Leads; Row Spacing 7.62 mm; Pitch 2.54 mm)
pins: 1 I1 (in), 2 I2 (in), 3 I3 (in), 4 I4 (in), 5 I5 (in), 6 I6 (in), 7 I7 (in), 8 I8 (in), 9 I9 (in), 10 GND (power), 11 I10 (in), 12 O2 (out), 13 IO6 (io), 14 IO5 (io), 15 IO4 (io), 16 IO3 (io), 17 IO2 (io), 18 IO1 (io), 19 O1 (out), 20 VCC (power)

## PAL16L8DNM
designator U?
20-Pin Medium PAL; Published: 15-Apr-2002; LatestRevisionDate: 04-Mar-2005; LatestRevisionNote: Stylized 3D Model Added.; DatasheetVersion: 1990; PackageVersion: 2000; PackageReference: N20A; Publisher: Altium Limited; PackageDescription: DIP; 20 Leads; Row Spacing 7.62 mm; Pitch 2.54 mm; Code_JEDEC: MS-001-AD; ComponentLink1Description: Manufacturer Link; ComponentLink1URL: http://www.national.com/
footprint N20A (DIP; 20 Leads; Row Spacing 7.62 mm; Pitch 2.54 mm)
3D model N20A (DIP; 20 Leads; Row Spacing 7.62 mm; Pitch 2.54 mm)
pins: 1 I1 (in), 2 I2 (in), 3 I3 (in), 4 I4 (in), 5 I5 (in), 6 I6 (in), 7 I7 (in), 8 I8 (in), 9 I9 (in), 10 GND (power), 11 I10 (in), 12 O2 (out), 13 IO6 (io), 14 IO5 (io), 15 IO4 (io), 16 IO3 (io), 17 IO2 (io), 18 IO1 (io), 19 O1 (out), 20 VCC (power)

## PAL16L8DVC
designator U?
20-Pin Medium PAL; Published: 15-Apr-2002; LatestRevisionDate: 13-Apr-2006; LatestRevisionNote: IPC-7351 Footprint Added.; DatasheetVersion: 1990; PackageVersion: 1996; PackageReference: V20A; Publisher: Altium Limited; PackageDescription: 20-Pin Leaded Chip Carrier 1.27 mm Pitch; Code_IPC: PLCC-20; ComponentLink1Description: Manufacturer Link; ComponentLink1URL: http://www.national.com/
footprint V20A_N (Leaded Chip Carrier, 20-Leads, Body 9x9mm, Pitch 1.27mm, IPC Medium Density)
footprint V20A_L (Leaded Chip Carrier, 20-Leads, Body 9x9mm, Pitch 1.27mm, IPC High Density)
footprint V20A_M (Leaded Chip Carrier, 20-Leads, Body 9x9mm, Pitch 1.27mm, IPC Low Density)
3D model PAL16L8D-V20A (20-Pin Leaded Chip Carrier 1.27 mm Pitch)
pins: 1 I1 (in), 2 I2 (in), 3 I3 (in), 4 I4 (in), 5 I5 (in), 6 I6 (in), 7 I7 (in), 8 I8 (in), 9 I9 (in), 10 GND (power), 11 I10 (in), 12 O2 (out), 13 IO6 (io), 14 IO5 (io), 15 IO4 (io), 16 IO3 (io), 17 IO2 (io), 18 IO1 (io), 19 O1 (out), 20 VCC (power)

## PAL16L8DVM
designator U?
20-Pin Medium PAL; Published: 15-Apr-2002; LatestRevisionDate: 13-Apr-2006; LatestRevisionNote: IPC-7351 Footprint Added.; DatasheetVersion: 1990; PackageVersion: 1996; PackageReference: V20A; Publisher: Altium Limited; PackageDescription: 20-Pin Leaded Chip Carrier 1.27 mm Pitch; Code_IPC: PLCC-20; ComponentLink1Description: Manufacturer Link; ComponentLink1URL: http://www.national.com/
footprint V20A_N (Leaded Chip Carrier, 20-Leads, Body 9x9mm, Pitch 1.27mm, IPC Medium Density)
footprint V20A_L (Leaded Chip Carrier, 20-Leads, Body 9x9mm, Pitch 1.27mm, IPC High Density)
footprint V20A_M (Leaded Chip Carrier, 20-Leads, Body 9x9mm, Pitch 1.27mm, IPC Low Density)
3D model PAL16L8D-V20A (20-Pin Leaded Chip Carrier 1.27 mm Pitch)
pins: 1 I1 (in), 2 I2 (in), 3 I3 (in), 4 I4 (in), 5 I5 (in), 6 I6 (in), 7 I7 (in), 8 I8 (in), 9 I9 (in), 10 GND (power), 11 I10 (in), 12 O2 (out), 13 IO6 (io), 14 IO5 (io), 15 IO4 (io), 16 IO3 (io), 17 IO2 (io), 18 IO1 (io), 19 O1 (out), 20 VCC (power)

## PAL16L8JC
designator U?
20-Pin Medium PAL; Published: 15-Apr-2002; LatestRevisionDate: 04-Mar-2005; LatestRevisionNote: Stylized 3D Model Added.; DatasheetVersion: 1990; PackageVersion: 2000; PackageReference: J20A; Publisher: Altium Limited; PackageDescription: DIP; 20 Leads; Row Spacing 7.62 mm; Pitch 2.54 mm; Code_JEDEC: MS-015-AE; ComponentLink1Description: Manufacturer Link; ComponentLink1URL: http://www.national.com/
footprint J20A (DIP; 20 Leads; Row Spacing 7.62 mm; Pitch 2.54 mm)
3D model J20A (DIP; 20 Leads; Row Spacing 7.62 mm; Pitch 2.54 mm)
pins: 1 I1 (in), 2 I2 (in), 3 I3 (in), 4 I4 (in), 5 I5 (in), 6 I6 (in), 7 I7 (in), 8 I8 (in), 9 I9 (in), 10 GND (power), 11 I10 (in), 12 O2 (out), 13 IO6 (io), 14 IO5 (io), 15 IO4 (io), 16 IO3 (io), 17 IO2 (io), 18 IO1 (io), 19 O1 (out), 20 VCC (power)

## PAL16L8JM
designator U?
20-Pin Medium PAL; Published: 15-Apr-2002; LatestRevisionDate: 04-Mar-2005; LatestRevisionNote: Stylized 3D Model Added.; DatasheetVersion: 1990; PackageVersion: 2000; PackageReference: J20A; Publisher: Altium Limited; PackageDescription: DIP; 20 Leads; Row Spacing 7.62 mm; Pitch 2.54 mm; Code_JEDEC: MS-015-AE; ComponentLink1Description: Manufacturer Link; ComponentLink1URL: http://www.national.com/
footprint J20A (DIP; 20 Leads; Row Spacing 7.62 mm; Pitch 2.54 mm)
3D model J20A (DIP; 20 Leads; Row Spacing 7.62 mm; Pitch 2.54 mm)
pins: 1 I1 (in), 2 I2 (in), 3 I3 (in), 4 I4 (in), 5 I5 (in), 6 I6 (in), 7 I7 (in), 8 I8 (in), 9 I9 (in), 10 GND (power), 11 I10 (in), 12 O2 (out), 13 IO6 (io), 14 IO5 (io), 15 IO4 (io), 16 IO3 (io), 17 IO2 (io), 18 IO1 (io), 19 O1 (out), 20 VCC (power)

## PAL16L8NC
designator U?
20-Pin Medium PAL; Published: 15-Apr-2002; LatestRevisionDate: 04-Mar-2005; LatestRevisionNote: Stylized 3D Model Added.; DatasheetVersion: 1990; PackageVersion: 2000; PackageReference: N20A; Publisher: Altium Limited; PackageDescription: DIP; 20 Leads; Row Spacing 7.62 mm; Pitch 2.54 mm; Code_JEDEC: MS-001-AD; ComponentLink1Description: Manufacturer Link; ComponentLink1URL: http://www.national.com/
footprint N20A (DIP; 20 Leads; Row Spacing 7.62 mm; Pitch 2.54 mm)
3D model N20A (DIP; 20 Leads; Row Spacing 7.62 mm; Pitch 2.54 mm)
pins: 1 I1 (in), 2 I2 (in), 3 I3 (in), 4 I4 (in), 5 I5 (in), 6 I6 (in), 7 I7 (in), 8 I8 (in), 9 I9 (in), 10 GND (power), 11 I10 (in), 12 O2 (out), 13 IO6 (io), 14 IO5 (io), 15 IO4 (io), 16 IO3 (io), 17 IO2 (io), 18 IO1 (io), 19 O1 (out), 20 VCC (power)

## PAL16L8NM
designator U?
20-Pin Medium PAL; Published: 15-Apr-2002; LatestRevisionDate: 04-Mar-2005; LatestRevisionNote: Stylized 3D Model Added.; DatasheetVersion: 1990; PackageVersion: 2000; PackageReference: N20A; Publisher: Altium Limited; PackageDescription: DIP; 20 Leads; Row Spacing 7.62 mm; Pitch 2.54 mm; Code_JEDEC: MS-001-AD; ComponentLink1Description: Manufacturer Link; ComponentLink1URL: http://www.national.com/
footprint N20A (DIP; 20 Leads; Row Spacing 7.62 mm; Pitch 2.54 mm)
3D model N20A (DIP; 20 Leads; Row Spacing 7.62 mm; Pitch 2.54 mm)
pins: 1 I1 (in), 2 I2 (in), 3 I3 (in), 4 I4 (in), 5 I5 (in), 6 I6 (in), 7 I7 (in), 8 I8 (in), 9 I9 (in), 10 GND (power), 11 I10 (in), 12 O2 (out), 13 IO6 (io), 14 IO5 (io), 15 IO4 (io), 16 IO3 (io), 17 IO2 (io), 18 IO1 (io), 19 O1 (out), 20 VCC (power)

## PAL16L8VC
designator U?
20-Pin Medium PAL; Published: 15-Apr-2002; LatestRevisionDate: 13-Apr-2006; LatestRevisionNote: IPC-7351 Footprint Added.; DatasheetVersion: 1990; PackageVersion: 1996; PackageReference: V20A; Publisher: Altium Limited; PackageDescription: 20-Pin Leaded Chip Carrier 1.27 mm Pitch; Code_IPC: PLCC-20; ComponentLink1Description: Manufacturer Link; ComponentLink1URL: http://www.national.com/
footprint V20A_N (Leaded Chip Carrier, 20-Leads, Body 9x9mm, Pitch 1.27mm, IPC Medium Density)
footprint V20A_L (Leaded Chip Carrier, 20-Leads, Body 9x9mm, Pitch 1.27mm, IPC High Density)
footprint V20A_M (Leaded Chip Carrier, 20-Leads, Body 9x9mm, Pitch 1.27mm, IPC Low Density)
3D model PAL16L8-V20A (20-Pin Leaded Chip Carrier 1.27 mm Pitch)
pins: 1 I1 (in), 2 I2 (in), 3 I3 (in), 4 I4 (in), 5 I5 (in), 6 I6 (in), 7 I7 (in), 8 I8 (in), 9 I9 (in), 10 GND (power), 11 I10 (in), 12 O2 (out), 13 IO6 (io), 14 IO5 (io), 15 IO4 (io), 16 IO3 (io), 17 IO2 (io), 18 IO1 (io), 19 O1 (out), 20 VCC (power)

## PAL16L8VM
designator U?
20-Pin Medium PAL; Published: 15-Apr-2002; LatestRevisionDate: 13-Apr-2006; LatestRevisionNote: IPC-7351 Footprint Added.; DatasheetVersion: 1990; PackageVersion: 1996; PackageReference: V20A; Publisher: Altium Limited; PackageDescription: 20-Pin Leaded Chip Carrier 1.27 mm Pitch; Code_IPC: PLCC-20; ComponentLink1Description: Manufacturer Link; ComponentLink1URL: http://www.national.com/
footprint V20A_N (Leaded Chip Carrier, 20-Leads, Body 9x9mm, Pitch 1.27mm, IPC Medium Density)
footprint V20A_L (Leaded Chip Carrier, 20-Leads, Body 9x9mm, Pitch 1.27mm, IPC High Density)
footprint V20A_M (Leaded Chip Carrier, 20-Leads, Body 9x9mm, Pitch 1.27mm, IPC Low Density)
3D model PAL16L8-V20A (20-Pin Leaded Chip Carrier 1.27 mm Pitch)
pins: 1 I1 (in), 2 I2 (in), 3 I3 (in), 4 I4 (in), 5 I5 (in), 6 I6 (in), 7 I7 (in), 8 I8 (in), 9 I9 (in), 10 GND (power), 11 I10 (in), 12 O2 (out), 13 IO6 (io), 14 IO5 (io), 15 IO4 (io), 16 IO3 (io), 17 IO2 (io), 18 IO1 (io), 19 O1 (out), 20 VCC (power)

## PAL16R4-7JC
designator U?
20-Pin Medium PAL; Published: 15-Apr-2002; LatestRevisionDate: 04-Mar-2005; LatestRevisionNote: Stylized 3D Model Added.; DatasheetVersion: 1990; PackageVersion: 2000; PackageReference: J20A; Publisher: Altium Limited; PackageDescription: DIP; 20 Leads; Row Spacing 7.62 mm; Pitch 2.54 mm; Code_JEDEC: MS-015-AE; ComponentLink1Description: Manufacturer Link; ComponentLink1URL: http://www.national.com/
footprint J20A (DIP; 20 Leads; Row Spacing 7.62 mm; Pitch 2.54 mm)
3D model J20A (DIP; 20 Leads; Row Spacing 7.62 mm; Pitch 2.54 mm)
pins: 1 CLK (in), 2 I1 (in), 3 I2 (in), 4 I3 (in), 5 I4 (in), 6 I5 (in), 7 I6 (in), 8 I7 (in), 9 I8 (in), 10 GND (power), 11 ~{OE} (in), 12 IO4 (io), 13 IO3 (io), 14 Q4 (hiz), 15 Q3 (hiz), 16 Q2 (hiz), 17 Q1 (hiz), 18 IO2 (io), 19 IO1 (io), 20 VCC (power)

## PAL16R4-7JM
designator U?
20-Pin Medium PAL; Published: 15-Apr-2002; LatestRevisionDate: 04-Mar-2005; LatestRevisionNote: Stylized 3D Model Added.; DatasheetVersion: 1990; PackageVersion: 2000; PackageReference: J20A; Publisher: Altium Limited; PackageDescription: DIP; 20 Leads; Row Spacing 7.62 mm; Pitch 2.54 mm; Code_JEDEC: MS-015-AE; ComponentLink1Description: Manufacturer Link; ComponentLink1URL: http://www.national.com/
footprint J20A (DIP; 20 Leads; Row Spacing 7.62 mm; Pitch 2.54 mm)
3D model J20A (DIP; 20 Leads; Row Spacing 7.62 mm; Pitch 2.54 mm)
pins: 1 CLK (in), 2 I1 (in), 3 I2 (in), 4 I3 (in), 5 I4 (in), 6 I5 (in), 7 I6 (in), 8 I7 (in), 9 I8 (in), 10 GND (power), 11 ~{OE} (in), 12 IO4 (io), 13 IO3 (io), 14 Q4 (hiz), 15 Q3 (hiz), 16 Q2 (hiz), 17 Q1 (hiz), 18 IO2 (io), 19 IO1 (io), 20 VCC (power)